# Altium schematic symbol library ProjectAuthor.Schlib: 1 symbol
Pins are listed as number, name and electrical type; pins without a type are passive.

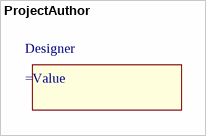
[diagram p0: symbol ProjectAuthor]

## ProjectAuthor
designator Designer  (no BOM)